# EAGLE library part MT2492 (library dc-dc)
Fully integrated, high efficiency 2A synchronous rectified step-down converter.
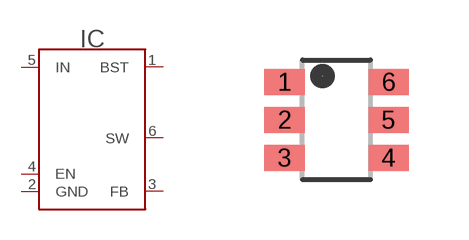
[diagram p2: symbol with the pads of SOT23-6; footprint SOT23-6]

Designator prefix IC

## MT2492 (LCSC#: C89358; MANF: XI'AN Aerosemi Tech; MANF#: MT2492)  [SOT23-6]
1  BST
2  GND
3  FB
4  EN
5  IN
6  SW

## Footprint SOT23-6 (pad centres in mm)
smd 1 x 0.65: 1 -1.3,0.95; 2 -1.3,0; 3 -1.3,-0.95; 4 1.3,-0.95; 5 1.3,0; 6 1.3,0.95